# EAGLE library part LT4619 (library LT4619)
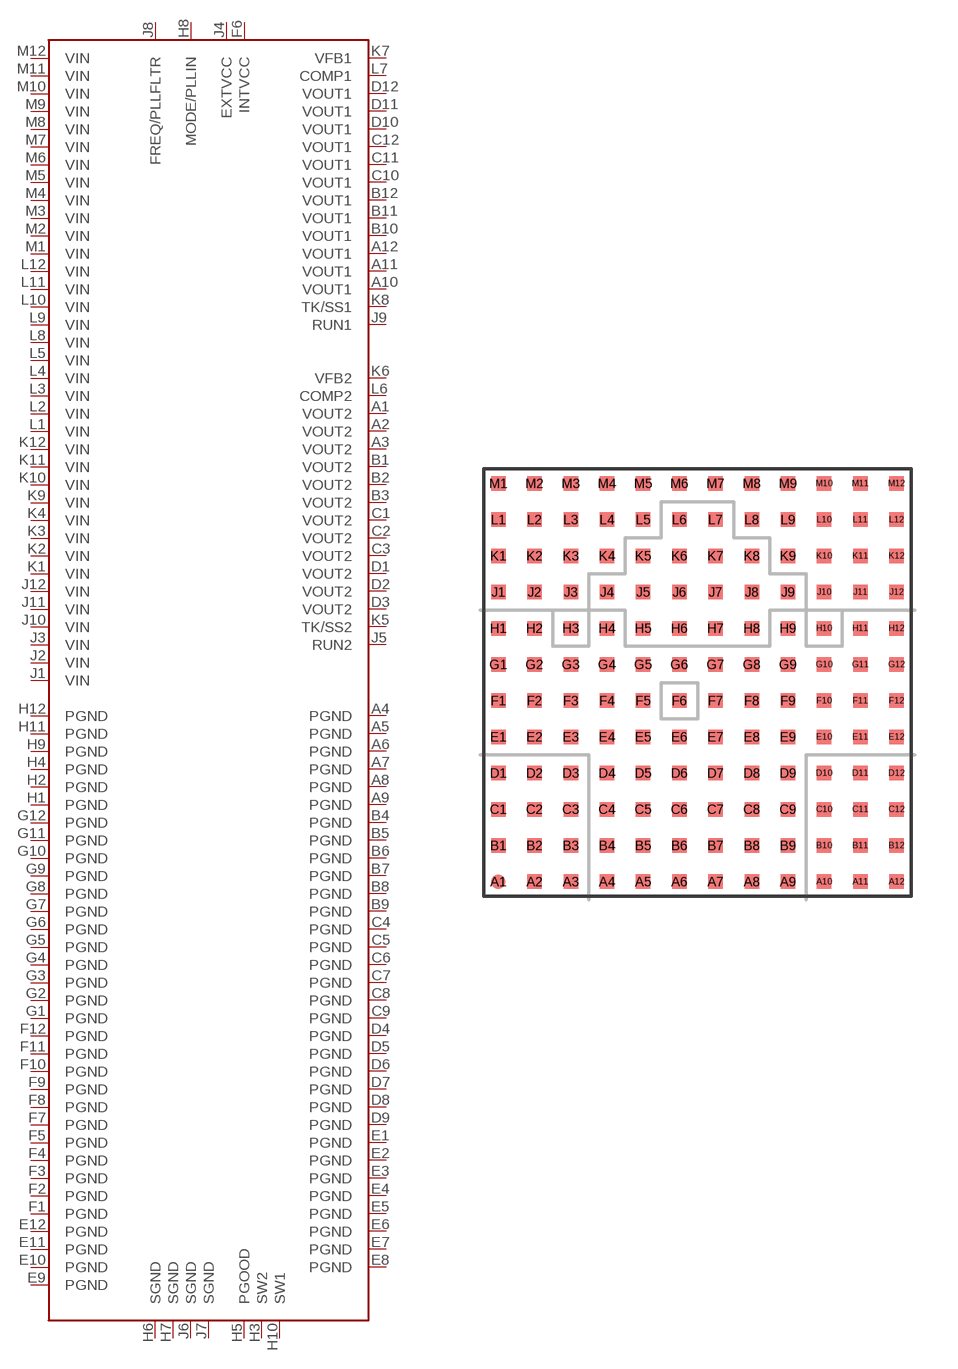
[diagram p0: symbol with the pads of LT4619; footprint LT4619]

Designator prefix U

## LT4619  [LT4619]
A1  VOUT2  pwr
A2  VOUT2  pwr
A3  VOUT2  pwr
A4  PGND  pwr
A5  PGND  pwr
A6  PGND  pwr
A7  PGND  pwr
A8  PGND  pwr
A9  PGND  pwr
A10  VOUT1  pwr
A11  VOUT1  pwr
A12  VOUT1  pwr
B1  VOUT2  pwr
B2  VOUT2  pwr
B3  VOUT2  pwr
B4  PGND  pwr
B5  PGND  pwr
B6  PGND  pwr
B7  PGND  pwr
B8  PGND  pwr
B9  PGND  pwr
B10  VOUT1  pwr
B11  VOUT1  pwr
B12  VOUT1  pwr
C1  VOUT2  pwr
C2  VOUT2  pwr
C3  VOUT2  pwr
C4  PGND  pwr
C5  PGND  pwr
C6  PGND  pwr
C7  PGND  pwr
C8  PGND  pwr
C9  PGND  pwr
C10  VOUT1  pwr
C11  VOUT1  pwr
C12  VOUT1  pwr
D1  VOUT2  pwr
D2  VOUT2  pwr
D3  VOUT2  pwr
D4  PGND  pwr
D5  PGND  pwr
D6  PGND  pwr
D7  PGND  pwr
D8  PGND  pwr
D9  PGND  pwr
D10  VOUT1  pwr
D11  VOUT1  pwr
D12  VOUT1  pwr
E1  PGND  pwr
E2  PGND  pwr
E3  PGND  pwr
E4  PGND  pwr
E5  PGND  pwr
E6  PGND  pwr
E7  PGND  pwr
E8  PGND  pwr
E9  PGND  pwr
E10  PGND  pwr
E11  PGND  pwr
E12  PGND  pwr
F1  PGND  pwr
F2  PGND  pwr
F3  PGND  pwr
F4  PGND  pwr
F5  PGND  pwr
F6  INTVCC  pwr
F7  PGND  pwr
F8  PGND  pwr
F9  PGND  pwr
F10  PGND  pwr
F11  PGND  pwr
F12  PGND  pwr
G1  PGND  pwr
G2  PGND  pwr
G3  PGND  pwr
G4  PGND  pwr
G5  PGND  pwr
G6  PGND  pwr
G7  PGND  pwr
G8  PGND  pwr
G9  PGND  pwr
G10  PGND  pwr
G11  PGND  pwr
G12  PGND  pwr
H1  PGND  pwr
H2  PGND  pwr
H3  SW2  out
H4  PGND  pwr
H5  PGOOD  oc
H6  SGND  pwr
H7  SGND  pwr
H8  MODE/PLLIN  in
H9  PGND  pwr
H10  SW1  out
H11  PGND  pwr
H12  PGND  pwr
J1  VIN  pwr
J2  VIN  pwr
J3  VIN  pwr
J4  EXTVCC  pas
J5  RUN2
J6  SGND  pwr
J7  SGND  pwr
J8  FREQ/PLLFLTR  in
J9  RUN1
J10  VIN  pwr
J11  VIN  pwr
J12  VIN  pwr
K1  VIN  pwr
K2  VIN  pwr
K3  VIN  pwr
K4  VIN  pwr
K5  TK/SS2
K6  VFB2
K7  VFB1
K8  TK/SS1
K9  VIN  pwr
K10  VIN  pwr
K11  VIN  pwr
K12  VIN  pwr
L1  VIN  pwr
L2  VIN  pwr
L3  VIN  pwr
L4  VIN  pwr
L5  VIN  pwr
L6  COMP2
L7  COMP1
L8  VIN  pwr
L9  VIN  pwr
L10  VIN  pwr
L11  VIN  pwr
L12  VIN  pwr
M1  VIN  pwr
M2  VIN  pwr
M3  VIN  pwr
M4  VIN  pwr
M5  VIN  pwr
M6  VIN  pwr
M7  VIN  pwr
M8  VIN  pwr
M9  VIN  pwr
M10  VIN  pwr
M11  VIN  pwr
M12  VIN  pwr

## Footprint LT4619 (pad centres in mm)
smd 0.508 x 0.508: A1 -6.985,-6.985; A2 -5.715,-6.985; A3 -4.445,-6.985; A4 -3.175,-6.985; A5 -1.905,-6.985; A6 -0.635,-6.985; A7 0.635,-6.985; A8 1.905,-6.985; A9 3.175,-6.985; A10 4.445,-6.985; A11 5.715,-6.985; A12 6.985,-6.985; B1 -6.985,-5.715; B2 -5.715,-5.715; B3 -4.445,-5.715; B4 -3.175,-5.715; B5 -1.905,-5.715; B6 -0.635,-5.715; B7 0.635,-5.715; B8 1.905,-5.715; B9 3.175,-5.715; B10 4.445,-5.715; B11 5.715,-5.715; B12 6.985,-5.715; C1 -6.985,-4.445; C2 -5.715,-4.445; C3 -4.445,-4.445; C4 -3.175,-4.445; C5 -1.905,-4.445; C6 -0.635,-4.445; C7 0.635,-4.445; C8 1.905,-4.445; C9 3.175,-4.445; C10 4.445,-4.445; C11 5.715,-4.445; C12 6.985,-4.445; D1 -6.985,-3.175; D2 -5.715,-3.175; D3 -4.445,-3.175; D4 -3.175,-3.175; D5 -1.905,-3.175; D6 -0.635,-3.175; D7 0.635,-3.175; D8 1.905,-3.175; D9 3.175,-3.175; D10 4.445,-3.175; D11 5.715,-3.175; D12 6.985,-3.175; E1 -6.985,-1.905; E2 -5.715,-1.905; E3 -4.445,-1.905; E4 -3.175,-1.905; E5 -1.905,-1.905; E6 -0.635,-1.905; E7 0.635,-1.905; E8 1.905,-1.905; E9 3.175,-1.905; E10 4.445,-1.905; E11 5.715,-1.905; E12 6.985,-1.905; F1 -6.985,-0.635; F2 -5.715,-0.635; F3 -4.445,-0.635; F4 -3.175,-0.635; F5 -1.905,-0.635; F6 -0.635,-0.635; F7 0.635,-0.635; F8 1.905,-0.635; F9 3.175,-0.635; F10 4.445,-0.635; F11 5.715,-0.635; F12 6.985,-0.635; G1 -6.985,0.635; G2 -5.715,0.635; G3 -4.445,0.635; G4 -3.175,0.635; G5 -1.905,0.635; G6 -0.635,0.635; G7 0.635,0.635; G8 1.905,0.635; G9 3.175,0.635; G10 4.445,0.635; G11 5.715,0.635; G12 6.985,0.635; H1 -6.985,1.905; H2 -5.715,1.905; H3 -4.445,1.905; H4 -3.175,1.905; H5 -1.905,1.905; H6 -0.635,1.905; H7 0.635,1.905; H8 1.905,1.905; H9 3.175,1.905; H10 4.445,1.905; H11 5.715,1.905; H12 6.985,1.905; J1 -6.985,3.175; J2 -5.715,3.175; J3 -4.445,3.175; J4 -3.175,3.175; J5 -1.905,3.175; J6 -0.635,3.175; J7 0.635,3.175; J8 1.905,3.175; J9 3.175,3.175; J10 4.445,3.175; J11 5.715,3.175; J12 6.985,3.175; K1 -6.985,4.445; K2 -5.715,4.445; K3 -4.445,4.445; K4 -3.175,4.445; K5 -1.905,4.445; K6 -0.635,4.445; K7 0.635,4.445; K8 1.905,4.445; K9 3.175,4.445; K10 4.445,4.445; K11 5.715,4.445; K12 6.985,4.445; L1 -6.985,5.715; L2 -5.715,5.715; L3 -4.445,5.715; L4 -3.175,5.715; L5 -1.905,5.715; L6 -0.635,5.715; L7 0.635,5.715; L8 1.905,5.715; L9 3.175,5.715; L10 4.445,5.715; L11 5.715,5.715; L12 6.985,5.715; M1 -6.985,6.985; M2 -5.715,6.985; M3 -4.445,6.985; M4 -3.175,6.985; M5 -1.905,6.985; M6 -0.635,6.985; M7 0.635,6.985; M8 1.905,6.985; M9 3.175,6.985; M10 4.445,6.985; M11 5.715,6.985; M12 6.985,6.985